# EAGLE library part SN65HVD230 (library can_driver)
CAN PHY driver 3.3-V CAN TRANSCEIVERS
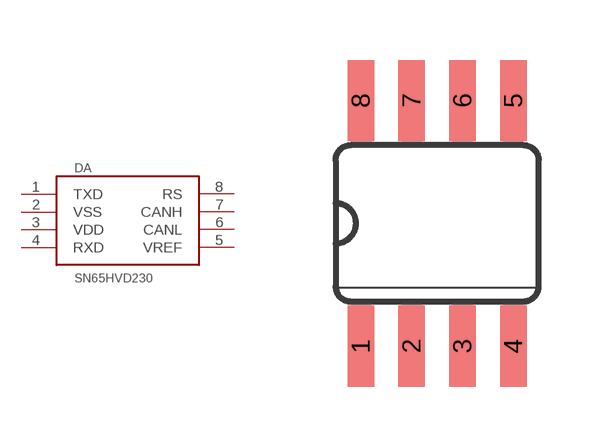
[diagram p2: symbol with the pads of SO08; footprint SO08]

Designator prefix DA

## SN65HVD230  [SO08]
1  TXD  in
2  VSS  pwr
3  VDD  pwr
4  RXD  out
5  VREF  pas
6  CANL
7  CANH
8  RS  in

## Footprint SO08 (pad centres in mm)
Small Outline Package
smd 0.66 x 2.032: 1 -1.905,-3.073; 2 -0.635,-3.073; 3 0.635,-3.073; 4 1.905,-3.073; 5 1.905,3.073; 6 0.635,3.073; 7 -0.635,3.073; 8 -1.905,3.073